# EAGLE library part MAX5483 (library BQ25504)
SPI Programmable Rheostat
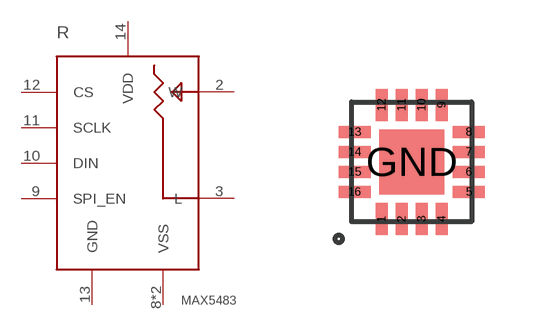
[diagram p43: symbol with the pads of TQFN-16/3MM; footprint TQFN-16/3MM]

Designator prefix R

## MAX5483 (DIGIKEY: MAX5483ETE+-ND)  [TQFN-16/3MM]
2  W
3  L
8  VSS
9  SPI_EN
10  DIN
11  SCLK
12  CS
13  GND
14  VDD
16  VSS

## Footprint TQFN-16/3MM (pad centres in mm)
smd 0.3 x 0.8: 1 -0.75,-1.43; 2 -0.25,-1.43; 3 0.25,-1.43; 4 0.75,-1.43; 9 0.75,1.43; 10 0.25,1.43; 11 -0.25,1.43; 12 -0.75,1.43
smd 0.8 x 0.3: 5 1.43,-0.75; 6 1.43,-0.25; 7 1.43,0.25; 8 1.43,0.75; 13 -1.43,0.75; 14 -1.43,0.25; 15 -1.43,-0.25; 16 -1.43,-0.75
smd 1.63 x 1.63: GND 0,0